# Altium footprint library OSTTC022162.PcbLib: 1 footprints
Each footprint in its own frame and in the unit in brackets; x right, y up, seen from the top. Pads: shape width x height; smd on the part's side, far side on the other; paste and mask are expansions set on the pad; w line width, h text height; cw(c..) or ccw(c..) is an arc to the next point about the centre after c.
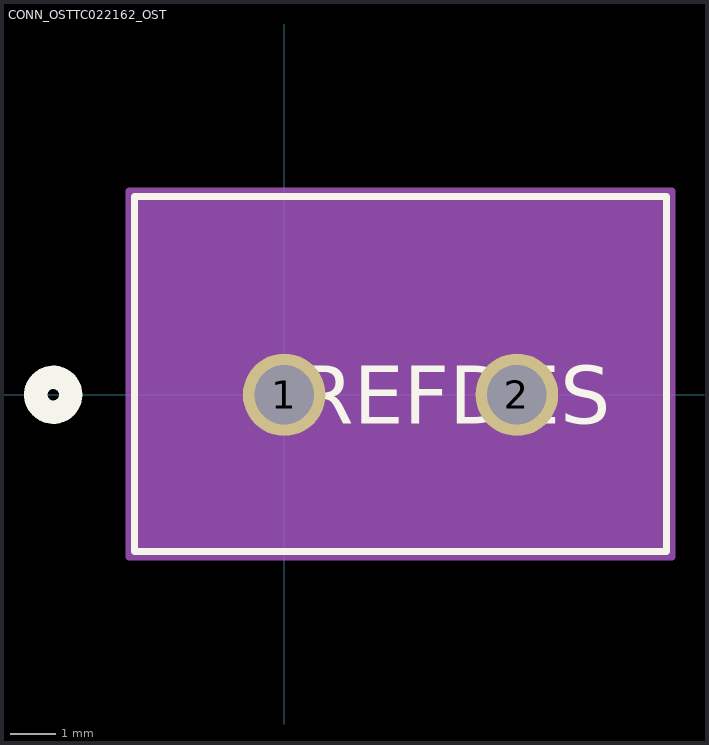
[diagram p0: the footprint, top view; thin cyan lines are the x and y axes]

## CONN_OSTTC022162_OST [mil]
pads (2):
  round 71 / inner round 60 / far side round 71 hole 51 paste-35.5 mask+0: 1(0,0) 2(200,0)
Top Overlay:
  circle w20: c-198.5,0 r15
  lines w6: -128.5,-134.65 328.5,-134.65 328.5,170.35 -128.5,170.35 -128.5,-134.65
  text "REFDES" at 12.5,-25 h50
Bottom Overlay:
  circle w20: c-198.5,0 r15
Mechanical 13:
  circle w20: c0,75 r15
  lines w1: -123.5,-129.65 323.5,-129.65 323.5,165.35 -123.5,165.35 -123.5,-129.65
  text "RefDes2" at 12.5,-25 h50
Mechanical 15:
  region: 333.5,175.35 -133.5,175.35 -133.5,-139.65 333.5,-139.65
  lines w6: -133.5,-139.65 -133.5,175.35 333.5,175.35 333.5,-139.65 -133.5,-139.65